# Altium schematic symbol library BKRES.SchLib: 1 symbol
Pins are listed as number, name and electrical type; pins without a type are passive.

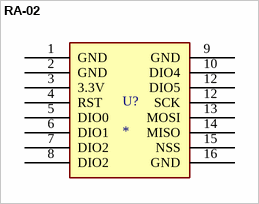
[diagram p0: symbol RA-02]

## RA-02
designator U?
General ISM < 1GHz LoRaâ„¢ Transceiver Module 410MHz ~ 525MHz Antenna Not Included, I-PEX Surface Mount; MF: Ai-Thinker; MP: RA-02; Package: None; Price: None; Value: *; SnapEDA_Link: https://www.snapeda.com/parts/RA-02/AI-Thinker/view-part/?ref=snap; Availability: Not in stock; Check_prices: https://www.snapeda.com/parts/RA-02/AI-Thinker/view-part/?ref=eda
footprint RA-02
pins: 1 GND, 2 GND, 3 3.3V, 4 RST, 5 DIO0, 6 DIO1, 7 DIO2, 8 DIO2, 9 GND, 10 DIO4, 12 DIO5, 12 SCK, 13 MOSI, 14 MISO, 15 NSS, 16 GND